# EAGLE library part 74ALVC164245 (library misc-74)
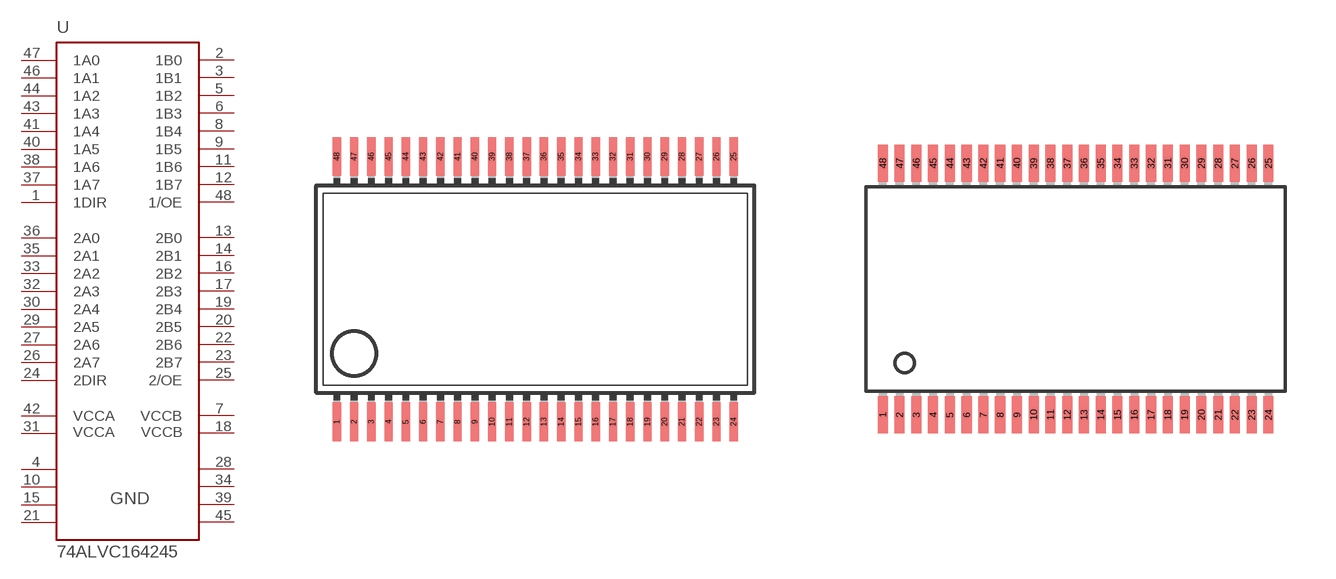
[diagram p0: symbol with the pads of SSOP48; footprints SSOP48, TSSOP48]

Designator prefix U

## 74ALVC164245DL  [SSOP48]
1  1DIR  in
2  1B0
3  1B1
4  GND  sup
5  1B2
6  1B3
7  VCCB  sup
8  1B4
9  1B5
10  GND  sup
11  1B6
12  1B7
13  2B0
14  2B1
15  GND  sup
16  2B2
17  2B3
18  VCCB1  sup
19  2B4
20  2B5
21  GND  sup
22  2B6
23  2B7
24  2DIR  in
25  2/OE  in
26  2A7
27  2A6
28  GND  sup
29  2A5
30  2A4
31  VCCA1  sup
32  2A3
33  2A2
34  GND  sup
35  2A1
36  2A0
37  1A7
38  1A6
39  GND  sup
40  1A5
41  1A4
42  VCCA  sup
43  1A3
44  1A2
45  GND  sup
46  1A1
47  1A0
48  1/OE  in

## 74ALVC164245DGG  [TSSOP48]
Pads as for SSOP48

## Footprint SSOP48 (pad centres in mm)
smd 0.305 x 1.422: 1 -6.985,-4.877; 2 -6.35,-4.877; 3 -5.715,-4.877; 4 -5.08,-4.877; 5 -4.445,-4.877; 6 -3.81,-4.877; 7 -3.175,-4.877; 8 -2.54,-4.877; 9 -1.905,-4.877; 10 -1.27,-4.877; 11 -0.635,-4.877; 12 0,-4.877; 13 0.635,-4.877; 14 1.27,-4.877; 15 1.905,-4.877; 16 2.54,-4.877; 17 3.175,-4.877; 18 3.81,-4.877; 19 4.445,-4.877; 20 5.08,-4.877; 21 5.715,-4.877; 22 6.35,-4.877; 23 6.985,-4.877; 24 7.62,-4.877; 25 7.62,4.877; 26 6.985,4.877; 27 6.35,4.877; 28 5.715,4.877; 29 5.08,4.877; 30 4.445,4.877; 31 3.81,4.877; 32 3.175,4.877; 33 2.54,4.877; 34 1.905,4.877; 35 1.27,4.877; 36 0.635,4.877; 37 0,4.877; 38 -0.635,4.877; 39 -1.27,4.877; 40 -1.905,4.877; 41 -2.54,4.877; 42 -3.175,4.877; 43 -3.81,4.877; 44 -4.445,4.877; 45 -5.08,4.877; 46 -5.715,4.877; 47 -6.35,4.877; 48 -6.985,4.877

## Footprint TSSOP48 (pad centres in mm)
smd 0.3 x 1.1: 1 -5.75,-3.75; 2 -5.25,-3.75; 3 -4.75,-3.75; 4 -4.25,-3.75; 5 -3.75,-3.75; 6 -3.25,-3.75; 7 -2.75,-3.75; 8 -2.25,-3.75; 9 -1.75,-3.75; 10 -1.25,-3.75; 11 -0.75,-3.75; 12 -0.25,-3.75; 13 0.25,-3.75; 14 0.75,-3.75; 15 1.25,-3.75; 16 1.75,-3.75; 17 2.25,-3.75; 18 2.75,-3.75; 19 3.25,-3.75; 20 3.75,-3.75; 21 4.25,-3.75; 22 4.75,-3.75; 23 5.25,-3.75; 24 5.75,-3.75; 25 5.75,3.75; 26 5.25,3.75; 27 4.75,3.75; 28 4.25,3.75; 29 3.75,3.75; 30 3.25,3.75; 31 2.75,3.75; 32 2.25,3.75; 33 1.75,3.75; 34 1.25,3.75; 35 0.75,3.75; 36 0.25,3.75; 37 -0.25,3.75; 38 -0.75,3.75; 39 -1.25,3.75; 40 -1.75,3.75; 41 -2.25,3.75; 42 -2.75,3.75; 43 -3.25,3.75; 44 -3.75,3.75; 45 -4.25,3.75; 46 -4.75,3.75; 47 -5.25,3.75; 48 -5.75,3.75